# Altium integrated library Loggerhead.IntLib: 175 symbols
Pins are listed as number, name and electrical type; pins without a type are passive.

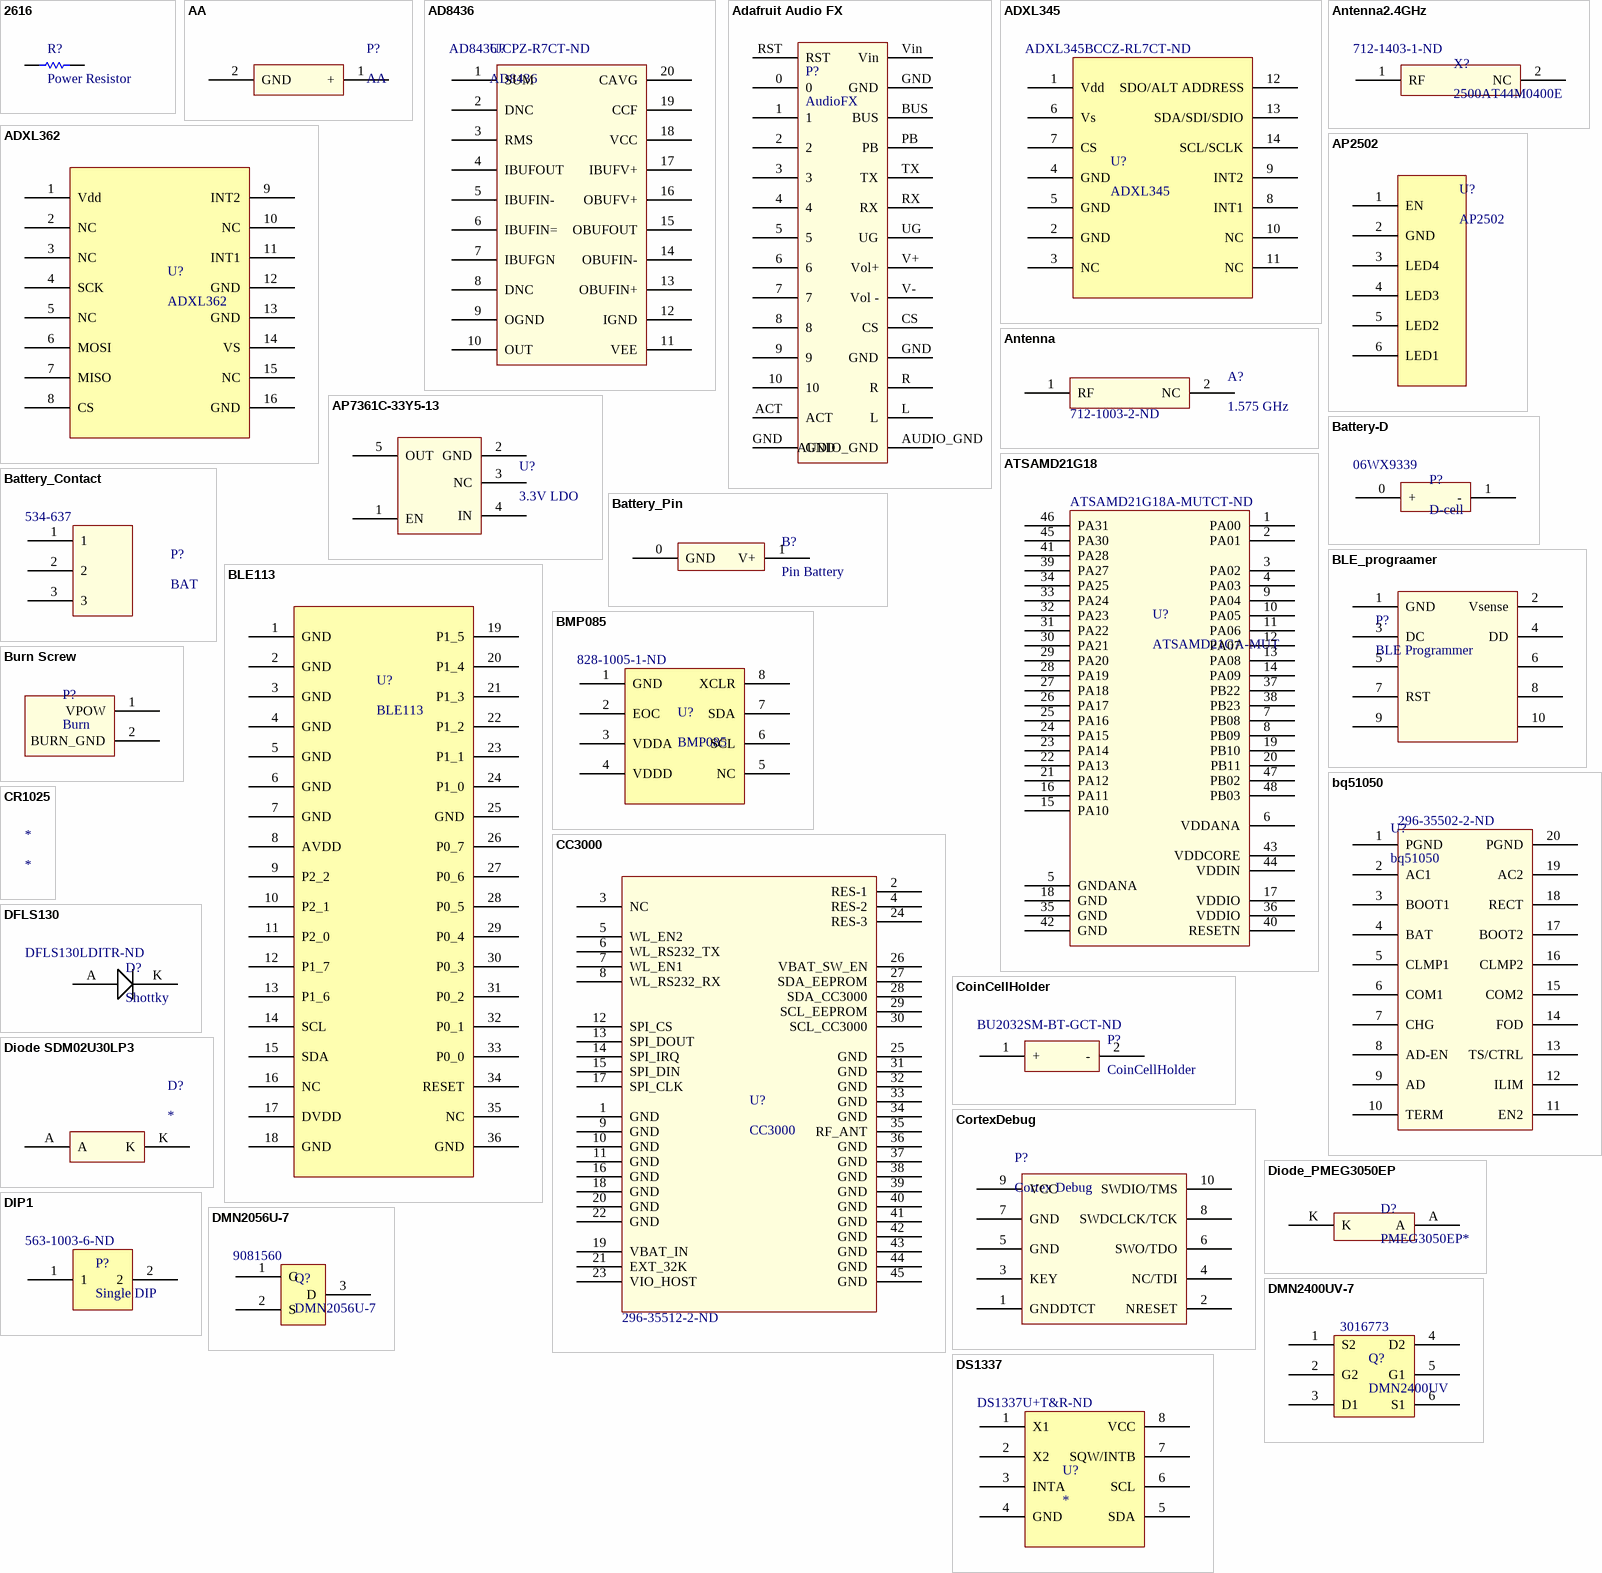
[diagram p0: symbols 2616 to DS1337]

## 2616
designator R?, comment Power Resistor
footprint 2616
pins: 1, 2

## AA
designator P?
footprint Model Name (Footprint not found)
footprint AA
pins: 1 +, 2 GND

## AD8436
designator U?  Supplier Part Number 1: AD8436JCPZ-R7CT-ND
RMS to DC; Supplier 1: Digi-Key
footprint AD8436 (RMS to DC)
pins: 1 SUM, 2 DNC, 3 RMS, 4 IBUFOUT, 5 IBUFIN-, 6 IBUFIN=, 7 IBUFGN, 8 DNC, 9 OGND, 10 OUT, 11 VEE, 12 IGND, 13 OBUFIN+, 14 OBUFIN-, 15 OBUFOUT, 16 OBUFV+, 17 IBUFV+, 18 VCC, 19 CCF, 20 CAVG

## Adafruit Audio FX
designator P?, comment AudioFX
footprint Adafruit Audio Fx
pins: 0, 1, 2, 3, 4, 5, 6, 7, 8, 9, 10, ACT, AUDIO_GND, BUS, CS, GND, GND, GND, L, PB, R, RST, RX, TX, UG, V+ Vol+, V- Vol -, Vin

## ADXL345
designator U?  Supplier Part Number 1: ADXL345BCCZ-RL7CT-ND
Supplier 1: Digi-Key
footprint ADXL345 (Digital Accelerometer)
pins: 1 Vdd (power), 2 GND, 3 NC, 4 GND, 5 GND, 6 Vs, 7 CS, 8 INT1, 9 INT2, 10 NC, 11 NC, 12 SDO/ALT ADDRESS, 13 SDA/SDI/SDIO, 14 SCL/SCLK

## ADXL362
designator U?
footprint ADXL362
pins: 1 Vdd (power), 2 NC, 3 NC, 4 SCK, 5 NC, 6 MOSI, 7 MISO, 8 CS, 9 INT2, 10 NC, 11 INT1, 12 GND, 13 GND, 14 VS, 15 NC, 16 GND

## Antenna
designator A?, comment 1.575 GHz  Supplier Part Number 1: 712-1003-2-ND
GPS chip antenna; Supplier 1: Digi-Key
footprint Antenna
pins: 1 RF, 2 NC

## Antenna2.4GHz
designator X?, comment 2500AT44M0400E  Supplier Part Number 1: 712-1403-1-ND
Supplier 1: Digi-Key
footprint 2500AT44M0400E (2.4GHz Antenna)
pins: 1 RF, 2 NC

## AP2502
designator U?
LED Driver 20 mA
footprint SOT-23-6 (AP2502KTR-G1)
pins: 1 EN, 2 GND, 3 LED4, 4 LED3, 5 LED2, 6 LED1

## AP7361C-33Y5-13
designator U?, comment 3.3V LDO
footprint AP7361C-33Y5-13 (3.3V LDO)
pins: 1 EN, 2 GND, 3 NC, 4 IN, 5 OUT

## ATSAMD21G18
designator U?, comment ATSAMD21GA-MUT  Supplier Part Number 1: ATSAMD21G18A-MUTCT-ND
Supplier 1: Digi-Key
footprint QFN127P600-8N
pins: 1 PA00, 2 PA01, 3 PA02, 4 PA03, 5 GNDANA, 6 VDDANA, 7 PB08, 8 PB09, 9 PA04, 10 PA05, 11 PA06, 12 PA07, 13 PA08, 14 PA09, 15 PA10, 16 PA11, 17 VDDIO, 18 GND, 19 PB10, 20 PB11, 21 PA12, 22 PA13, 23 PA14, 24 PA15, 25 PA16, 26 PA17, 27 PA18, 28 PA19, 29 PA20, 30 PA21, 31 PA22, 32 PA23, 33 PA24, 34 PA25, 35 GND, 36 VDDIO, 37 PB22, 38 PB23, 39 PA27, 40 RESETN, 41 PA28, 42 GND, 43 VDDCORE, 44 VDDIN, 45 PA30, 46 PA31, 47 PB02, 48 PB03

## Battery-D
designator P?, comment D-cell  Supplier Part Number 1: 06WX9339
Supplier 1: Newark
footprint Battery-D (Bulgin BX0037)
pins: 0 +, 1 -

## Battery_Contact
designator P?, comment BAT  Supplier Part Number 1: 534-637
Supplier 1: Mouser
footprint Battery_contact
pins: 1, 2, 3

## Battery_Pin
designator B?, comment Pin Battery
footprint Battery_Pin
pins: 0 GND, 1 V+

## BLE113
designator U?
footprint BLE113
pins: 1 GND (power), 2 GND, 3 GND, 4 GND, 5 GND, 6 GND, 7 GND, 8 AVDD, 9 P2_2, 10 P2_1, 11 P2_0, 12 P1_7, 13 P1_6, 14 SCL, 15 SDA, 16 NC, 17 DVDD, 18 GND, 19 P1_5, 20 P1_4, 21 P1_3, 22 P1_2, 23 P1_1, 24 P1_0, 25 GND, 26 P0_7, 27 P0_6, 28 P0_5, 29 P0_4, 30 P0_3, 31 P0_2, 32 P0_1, 33 P0_0, 34 RESET, 35 NC, 36 GND

## BLE_prograamer
designator P?, comment BLE Programmer
BLE Programmer Header
footprint CC2540 Header
pins: 1 GND, 2 Vsense, 3 DC, 4 DD, 5, 6, 7 RST, 8, 9, 10

## BMP085
designator U?  Supplier Part Number 1: 828-1005-1-ND
Altimeter/Temp Sensor; Supplier 1: Digi-Key
footprint LCC8_bosch
pins: 1 GND, 2 EOC, 3 VDDA, 4 VDDD, 5 NC, 6 SCL, 7 SDA, 8 XCLR (power)

## bq51050
designator U?  Supplier Part Number 1: 296-35502-2-ND
TI Qi Receiver; Supplier 1: Digi-Key
footprint bq51050 (TI Qi Receiver)
pins: 1 PGND, 2 AC1, 3 BOOT1, 4 BAT, 5 CLMP1, 6 COM1, 7 CHG, 8 AD-EN, 9 AD, 10 TERM, 11 EN2, 12 ILIM, 13 TS/CTRL, 14 FOD, 15 COM2, 16 CLMP2, 17 BOOT2, 18 RECT, 19 AC2, 20 PGND

## Burn Screw
designator P?, comment Burn
footprint BURN
pins: 1 VPOW, 2 BURN_GND

## CC3000
designator U?  Supplier Part Number 1: 296-35512-2-ND
TI WiFI; Supplier 1: Digi-Key
footprint CC3000 (TI WiFi)
pins: 1 GND, 2 RES-1, 3 NC, 4 RES-2, 5 WL_EN2, 6 WL_RS232_TX, 7 WL_EN1, 8 WL_RS232_RX, 9 GND, 10 GND, 11 GND, 12 SPI_CS, 13 SPI_DOUT, 14 SPI_IRQ, 15 SPI_DIN, 16 GND, 17 SPI_CLK, 18 GND, 19 VBAT_IN, 20 GND, 21 EXT_32K, 22 GND, 23 VIO_HOST, 24 RES-3, 25 GND, 26 VBAT_SW_EN, 27 SDA_EEPROM, 28 SDA_CC3000, 29 SCL_EEPROM, 30 SCL_CC3000, 31 GND, 32 GND, 33 GND, 34 GND, 35 RF_ANT, 36 GND, 37 GND, 38 GND, 39 GND, 40 GND, 41 GND, 42 GND, 43 GND, 44 GND, 45 GND

## CoinCellHolder
designator P?  Supplier Part Number 1: BU2032SM-BT-GCT-ND
Supplier 1: Digi-Key
footprint CoinCellHolder (MPD BU2032SM-BT-GTR)
pins: 1 +, 2 -

## CortexDebug
designator P?, comment Cortex Debug
footprint Header_2x5_50mil
pins: 1 GNDDTCT, 2 NRESET, 3 KEY, 4 NC/TDI, 5 GND, 6 SWO/TDO, 7 GND, 8 SWDCLCK/TCK, 9 VCC, 10 SWDIO/TMS

## CR1025
designator *
footprint CR1025

## DFLS130
designator D?, comment Shottky  Supplier Part Number 1: DFLS130LDITR-ND
Supplier 1: Digi-Key
footprint DFLS130
pins: A, K

## Diode SDM02U30LP3
designator D?
SDM02U30LP3
footprint Diode SDM02U30LP3-7B
pins: A, K

## Diode_PMEG3050EP
designator D?, comment PMEG3050EP*
footprint Diode_PMEG3050EP
pins: A, K

## DIP1
designator P?, comment Single DIP  Supplier Part Number 1: 563-1003-6-ND
Supplier 1: Digi-Key
footprint DIP1
pins: 1, 2

## DMN2056U-7
designator Q?  Supplier Part Number 1: 9081560
ComponentLink1Description: New link; ComponentLink1URL: https://www.diodes.com/assets/Datasheets/DMN2056U.pdf; Supplier 1: Future Electronics
footprint SOT92P240X115-3N (SOT23, 3-Leads, Body 2.90x2.40mm, Pitch 0.92mm, IPC Medium Density)
pins: 1 G, 2 S, 3 D

## DMN2400UV-7
designator Q?, comment DMN2400UV  Supplier Part Number 1: 3016773
Supplier 1: Future Electronics
footprint SOT50P162X60-6N (SOT23, 6-Leads, Body 1.60x1.63mm, Pitch 0.50mm, IPC Medium Density)
pins: 1 S2, 2 G2, 3 D1, 4 D2, 5 G1, 6 S1

## DS1337
designator U?  Supplier Part Number 1: DS1337U+T&R-ND
Supplier 1: Digi-Key
footprint uSOP8
pins: 1 X1, 2 X2, 3 INTA, 4 GND, 5 SDA, 6 SCL, 7 SQW/INTB, 8 VCC (power)

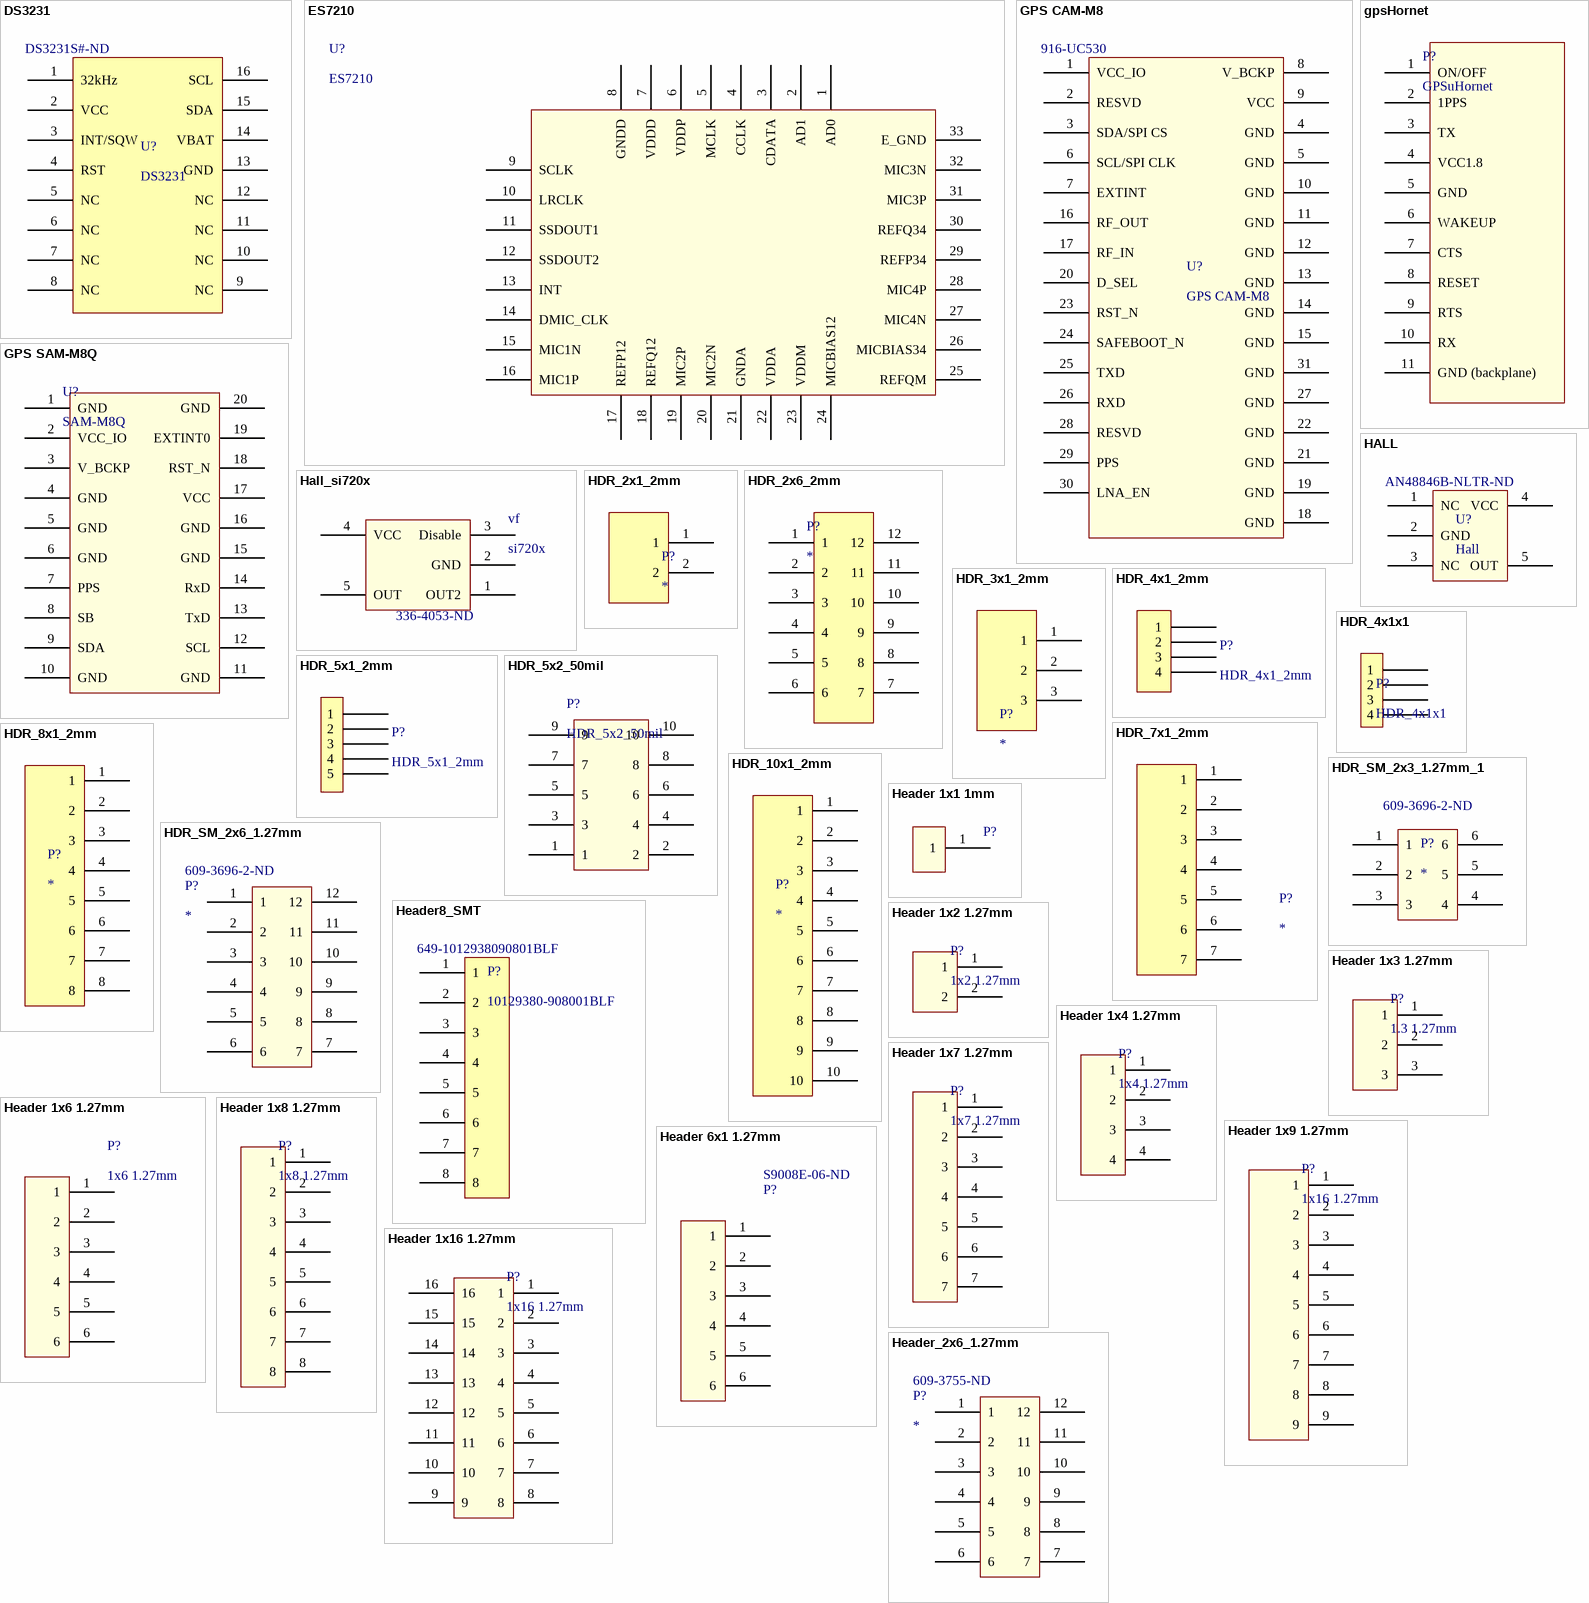
[diagram p1: symbols DS3231 to Header_2x6_1.27mm]

## DS3231
designator U?  Supplier Part Number 1: DS3231S#-ND
Supplier 1: Digi-Key
footprint DS3231
pins: 1 32kHz, 2 VCC (power), 3 INT/SQW, 4 RST, 5 NC, 6 NC, 7 NC, 8 NC, 9 NC, 10 NC, 11 NC, 12 NC, 13 GND, 14 VBAT (power), 15 SDA, 16 SCL

## ES7210
designator U?
Audio CODEC
footprint ES7210 (4-ch audio codec)
pins: 1 AD0, 2 AD1, 3 CDATA, 4 CCLK, 5 MCLK, 6 VDDP, 7 VDDD, 8 GNDD, 9 SCLK, 10 LRCLK, 11 SSDOUT1, 12 SSDOUT2, 13 INT, 14 DMIC_CLK, 15 MIC1N, 16 MIC1P, 17 REFP12, 18 REFQ12, 19 MIC2P, 20 MIC2N, 21 GNDA, 22 VDDA, 23 VDDM, 24 MICBIAS12, 25 REFQM, 26 MICBIAS34, 27 MIC4N, 28 MIC4P, 29 REFP34, 30 REFQ34, 31 MIC3P, 32 MIC3N, 33 E_GND

## GPS CAM-M8
designator U?  Supplier Part Number 1: 916-UC530
Supplier 1: Mouser
footprint Fastrax (Fastrax GPS Module UC530)
pins: 1 VCC_IO, 2 RESVD, 3 SDA/SPI CS, 4 GND, 5 GND, 6 SCL/SPI CLK, 7 EXTINT, 8 V_BCKP, 9 VCC, 10 GND, 11 GND, 12 GND, 13 GND, 14 GND, 15 GND, 16 RF_OUT, 17 RF_IN, 18 GND, 19 GND, 20 D_SEL, 21 GND, 22 GND, 23 RST_N, 24 SAFEBOOT_N, 25 TXD, 26 RXD, 27 GND, 28 RESVD, 29 PPS, 30 LNA_EN, 31 GND

## GPS SAM-M8Q
designator U?, comment SAM-M8Q
footprint GPS SAM-MQ8
pins: 1 GND, 2 VCC_IO, 3 V_BCKP, 4 GND, 5 GND, 6 GND, 7 PPS, 8 SB, 9 SDA, 10 GND, 11 GND, 12 SCL, 13 TxD, 14 RxD, 15 GND, 16 GND, 17 VCC, 18 RST_N, 19 EXTINT0, 20 GND

## gpsHornet
designator P?, comment GPSuHornet
footprint gpsHornet
pins: 1 ON/OFF, 2 1PPS, 3 TX, 4 VCC1.8, 5 GND, 6 WAKEUP, 7 CTS, 8 RESET, 9 RTS, 10 RX, 11 GND (backplane)

## HALL
designator U?, comment Hall  Supplier Part Number 1: AN48846B-NLTR-ND
Supplier 1: Digi-Key
footprint HALL (SOT23, 5-Leads, Body 2.00x2.10mm, Pitch 0.65mm, IPC Medium Density)
pins: 1 NC, 2 GND, 3 NC, 4 VCC, 5 OUT

## Hall_si720x
designator vf, comment si720x  Supplier Part Number 1: 336-4053-ND
Hall Sensor; Supplier 1: Digi-Key
footprint Hall_si720x (SOT23, 5-Leads, Body 2.90x2.75mm, Pitch 0.95mm, IPC Medium Density)
pins: 1 OUT2, 2 GND, 3 Disable, 4 VCC, 5 OUT

## HDR_2x1_2mm
designator P?
footprint HDR_2x1_2mm
pins: 1, 2

## HDR_2x6_2mm
designator P?
footprint HDR_6x2_2mm
pins: 1, 2, 3, 4, 5, 6, 7, 8, 9, 10, 11, 12

## HDR_3x1_2mm
designator P?
footprint HDR_3x1_2mm
pins: 1, 2, 3

## HDR_4x1_2mm
designator P?
footprint Hdr_4x1_2mm
pins: 1, 2, 3, 4

## HDR_4x1x1
designator P?
footprint HDR4x1x1mm (Header with 1 mm centers)
pins: 1, 2, 3, 4

## HDR_5x1_2mm
designator P?
footprint Hdr_5x1_2mm
pins: 1, 2, 3, 4, 5

## HDR_5x2_50mil
designator P?
footprint Header_2x5_50mil
pins: 1, 2, 3, 4, 5, 6, 7, 8, 9, 10

## HDR_7x1_2mm
designator P?
footprint HDR_7x1_2mm
pins: 1, 2, 3, 4, 5, 6, 7

## HDR_8x1_2mm
designator P?
footprint HDR_8x1_2mm
pins: 1, 2, 3, 4, 5, 6, 7, 8

## HDR_10x1_2mm
designator P?
footprint HDR_10x1_2mm
pins: 1, 2, 3, 4, 5, 6, 7, 8, 9, 10

## HDR_SM_2x3_1.27mm_1
designator P?  Supplier Part Number 1: 609-3696-2-ND
Amphenol surface mount header; Supplier 1: Digi-Key
footprint HDR_SM_2x6_1.27mm
pins: 1, 2, 3, 4, 5, 6

## HDR_SM_2x6_1.27mm
designator P?  Supplier Part Number 1: 609-3696-2-ND
Amphenol surface mount header; Supplier 1: Digi-Key
footprint SM Header12
pins: 1, 2, 3, 4, 5, 6, 7, 8, 9, 10, 11, 12

## Header8_SMT
designator P?, comment 10129380-908001BLF  Supplier Part Number 1: 649-1012938090801BLF
Surface mount header; Supplier 1: Mouser
footprint Header_8_SMT (Amphenol  10129380-908001BLF)
pins: 1, 2, 3, 4, 5, 6, 7, 8

## Header 1x1 1mm
designator P?
1mm through hole
footprint Header1x1mm
pins: 1

## Header 1x2 1.27mm
designator P?, comment 1x2 1.27mm
footprint Header1x2 1.27mm
pins: 1, 2

## Header 1x3 1.27mm
designator P?, comment 1.3 1.27mm
footprint Header1x3 1.27mm
pins: 1, 2, 3

## Header 1x4 1.27mm
designator P?, comment 1x4 1.27mm
footprint Header1x4 1.27mm
pins: 1, 2, 3, 4

## Header 1x6 1.27mm
designator P?, comment 1x6 1.27mm
footprint Header1x6 1.27mm
pins: 1, 2, 3, 4, 5, 6

## Header 1x7 1.27mm
designator P?, comment 1x7 1.27mm
footprint Header1x7 1.27mm
pins: 1, 2, 3, 4, 5, 6, 7

## Header 1x8 1.27mm
designator P?, comment 1x8 1.27mm
footprint Header1x8 1.27mm
pins: 1, 2, 3, 4, 5, 6, 7, 8

## Header 1x9 1.27mm
designator P?, comment 1x16 1.27mm
footprint Header1x9 1.27mm
pins: 1, 2, 3, 4, 5, 6, 7, 8, 9

## Header 1x16 1.27mm
designator P?, comment 1x16 1.27mm
footprint Header1x16 1.27mm
pins: 1, 2, 3, 4, 5, 6, 7, 8, 9, 10, 11, 12, 13, 14, 15, 16

## Header 6x1 1.27mm
designator P?  Supplier Part Number 1: S9008E-06-ND
Supplier 1: Digi-Key
footprint Header6x1 1.27mm
pins: 1, 2, 3, 4, 5, 6

## Header_2x6_1.27mm
designator P?  Supplier Part Number 1: 609-3755-ND
Amphenol board mount header; Supplier 1: Digi-Key
footprint Header2x6 1.27mm
pins: 1, 2, 3, 4, 5, 6, 7, 8, 9, 10, 11, 12

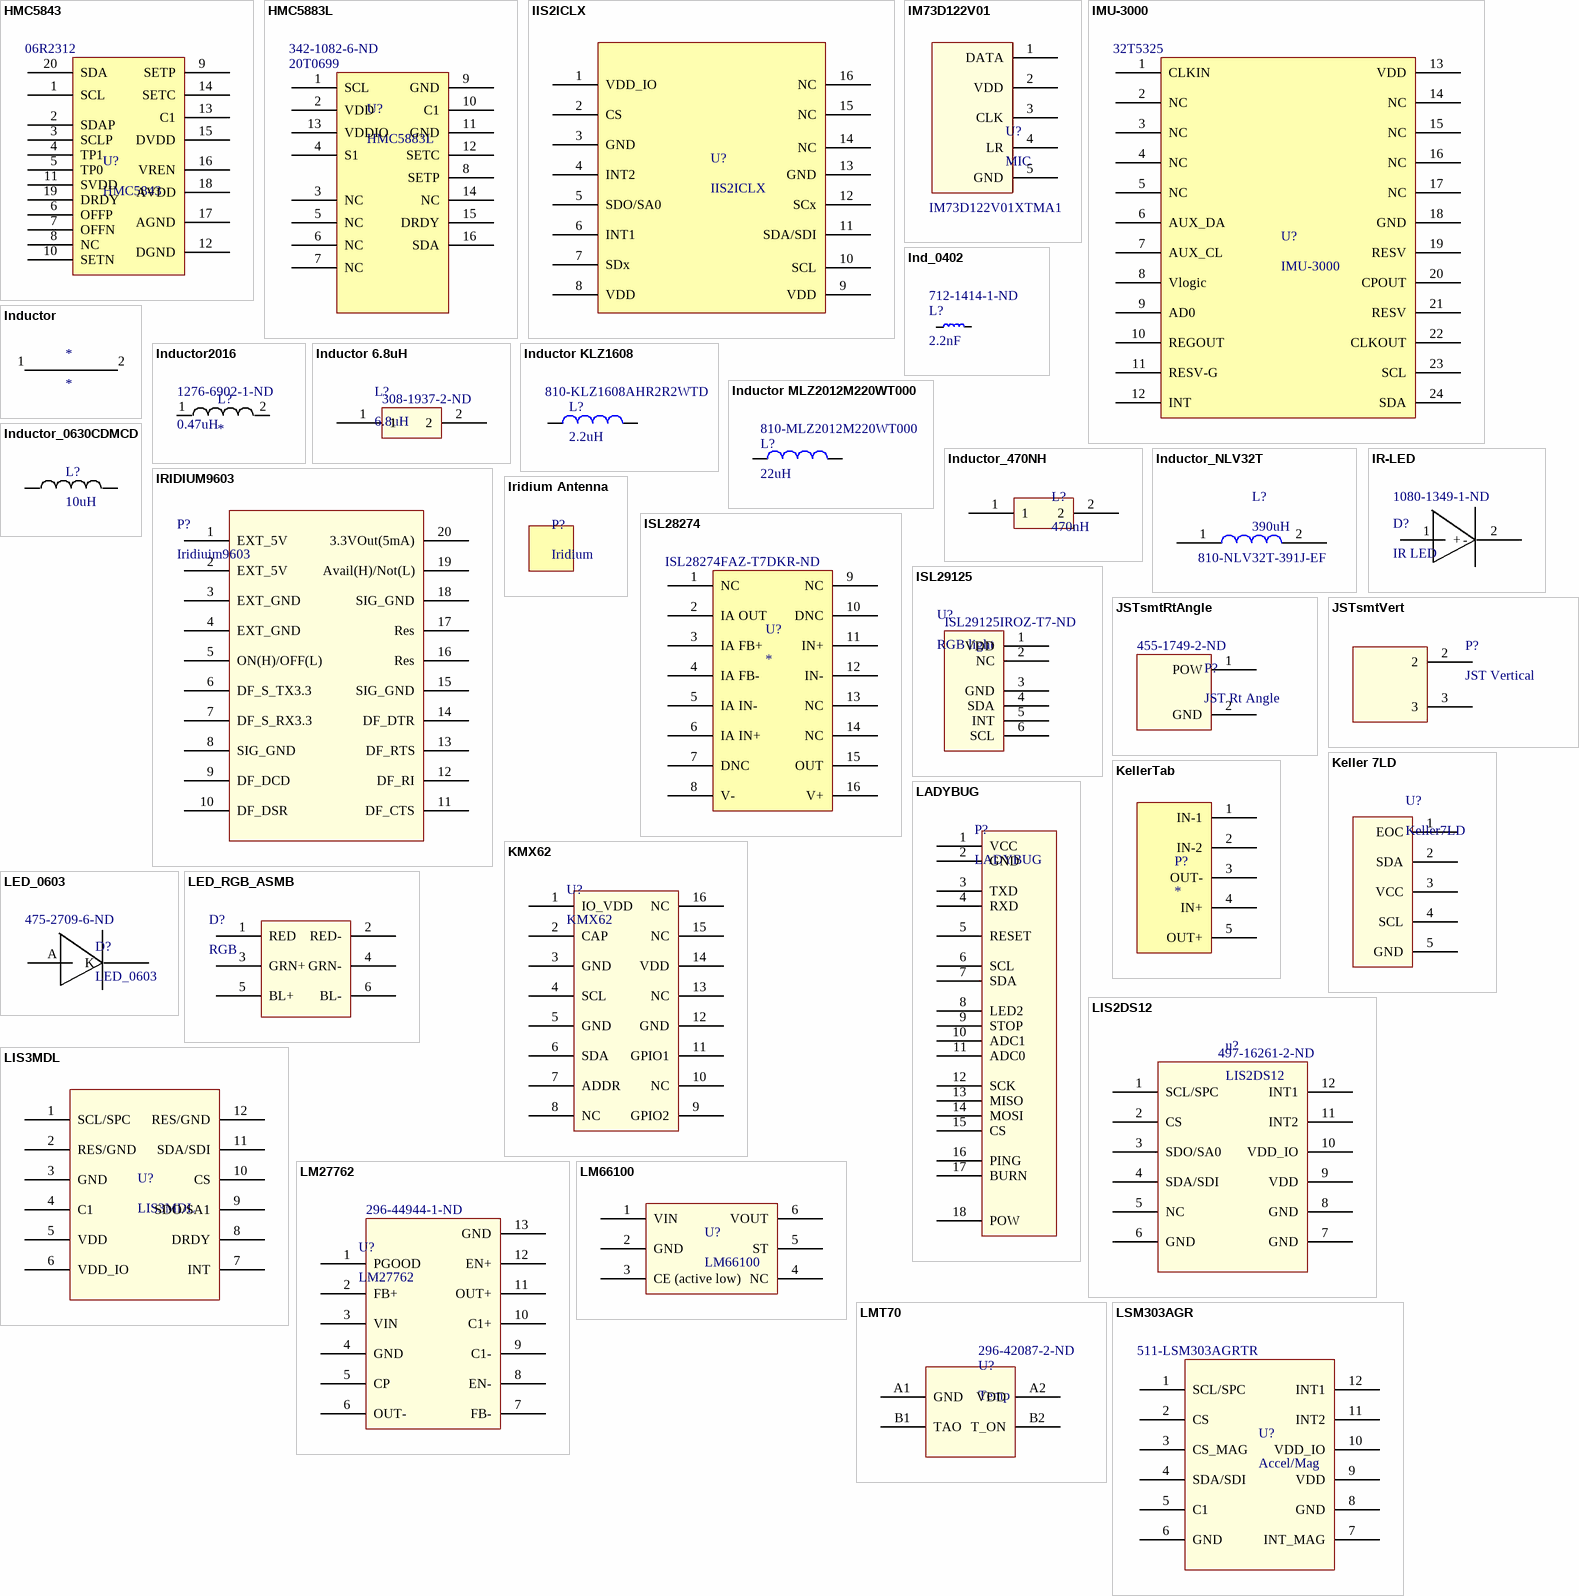
[diagram p2: symbols HMC5843 to LSM303AGR]

## HMC5843
designator U?  Supplier Part Number 1: 06R2312
Supplier 1: Newark
footprint HMC5843 (Compass)
pins: 1 SCL, 2 SDAP, 3 SCLP, 4 TP1, 5 TP0, 6 OFFP, 7 OFFN, 8 NC, 9 SETP, 10 SETN, 11 SVDD, 12 DGND, 13 C1, 14 SETC, 15 DVDD, 16 VREN, 17 AGND, 18 AVDD (power), 19 DRDY, 20 SDA

## HMC5883L
designator U?  Supplier Part Number 1: 20T0699  Supplier Part Number 2: 342-1082-6-ND
Supplier 1: Newark; Supplier 2: Digi-Key
footprint HMC5883L (Compass 3D Honeywell)
pins: 1 SCL, 2 VDD (power), 3 NC, 4 S1, 5 NC, 6 NC, 7 NC, 8 SETP, 9 GND, 10 C1, 11 GND, 12 SETC, 13 VDDIO, 14 NC, 15 DRDY, 16 SDA

## IIS2ICLX
designator U?
2-axis Accelerometer
footprint IIS2ICLX (accelerometer)
pins: 1 VDD_IO, 2 CS, 3 GND, 4 INT2, 5 SDO/SA0, 6 INT1, 7 SDx, 8 VDD, 9 VDD, 10 SCL, 11 SDA/SDI, 12 SCx, 13 GND, 14 NC, 15 NC, 16 NC

## IM73D122V01
designator U?, comment MIC  Supplier Part Number 1: IM73D122V01XTMA1
Infineon MEMS Mic; Supplier 1: Arrow Electronics
footprint IM73D122V01 (Infineon MEMS Mic)
pins: 1 DATA, 2 VDD, 3 CLK, 4 LR, 5 GND

## IMU-3000
designator U?  Supplier Part Number 1: 32T5325
Supplier 1: Newark
footprint IMU-3000 (Invensense Gyro)
pins: 1 CLKIN, 2 NC, 3 NC, 4 NC, 5 NC, 6 AUX_DA, 7 AUX_CL, 8 Vlogic, 9 AD0, 10 REGOUT, 11 RESV-G, 12 INT, 13 VDD (power), 14 NC, 15 NC, 16 NC, 17 NC, 18 GND, 19 RESV, 20 CPOUT, 21 RESV, 22 CLKOUT, 23 SCL, 24 SDA

## Ind_0402
designator L?, comment 2.2nF  Supplier Part Number 1: 712-1414-1-ND
chip inductor; Supplier 1: Digi-Key
footprint INDC1005X05N (Chip Inductor, 2-Leads, Body 1.00x0.50mm, IPC Medium Density)
pins: 1, 2

## Inductor
designator *
footprint Inductor
pins: 1, 2

## Inductor2016
designator L?  value 0.47uH  Supplier Part Number 1: 1276-6902-1-ND
Supplier 1: Digi-Key
footprint Inductor2016
pins: 1, 2

## Inductor 6.8uH
designator L?, comment 6.8uH  Supplier Part Number 1: 308-1937-2-ND
Sumida Inductor; Supplier 1: Digi-Key
footprint Inductor - duplicate (Sumida Inductor)
pins: 1, 2

## Inductor KLZ1608
designator L?, comment 2.2uH  Supplier Part Number 1: 810-KLZ1608AHR2R2WTD
Supplier 1: Mouser
footprint Inductor KLZ1608AHR
pins: 1, 2

## Inductor MLZ2012M220WT000
designator L?, comment 22uH  Supplier Part Number 1: 810-MLZ2012M220WT000
Supplier 1: Mouser
footprint Inductor MLZ2012M220WT000
pins: 1, 2

## Inductor_470NH
designator L?, comment 470nH
Supplier 1: Newark; Supplier Part Number 1: 27T2304
footprint Model Name (Footprint not found)
footprint Inductor_470NH (Vishay IHLP1212AEERR47M11)
pins: 1, 2

## Inductor_0630CDMCD
designator L?, comment 10uH
footprint Inductor0630CDMCD
pins: 1, 2

## Inductor_NLV32T
designator L?, comment 390uH  Supplier Part Number 1: 810-NLV32T-391J-EF
Supplier 1: Mouser
footprint Inductor_NLV32T
pins: 1, 2

## IR-LED
designator D?, comment IR LED  Supplier Part Number 1: 1080-1349-1-ND
Supplier 1: Digi-Key
footprint IR-LED
pins: 1 +, 2 - "Cathode (gnd)"

## IRIDIUM9603
designator P?, comment Iridiuim9603
footprint Iridium9603
pins: 1 EXT_5V, 2 EXT_5V, 3 EXT_GND, 4 EXT_GND, 5 ON(H)/OFF(L), 6 DF_S_TX3.3, 7 DF_S_RX3.3, 8 SIG_GND, 9 DF_DCD, 10 DF_DSR, 11 DF_CTS, 12 DF_RI, 13 DF_RTS, 14 DF_DTR, 15 SIG_GND, 16 Res, 17 Res, 18 SIG_GND, 19 Avail(H)/Not(L), 20 3.3VOut(5mA)

## Iridium Antenna
designator P?, comment Iridium
footprint Iridium Antenna (Iridium patch antenna)

## ISL28274
designator U?  Supplier Part Number 1: ISL28274FAZ-T7DKR-ND
Supplier 1: Digi-Key
footprint QSOP16_Intersil
pins: 1 NC, 2 IA OUT, 3 IA FB+, 4 IA FB-, 5 IA IN-, 6 IA IN+, 7 DNC, 8 V-, 9 NC, 10 DNC, 11 IN+, 12 IN-, 13 NC, 14 NC, 15 OUT, 16 V+ (power)

## ISL29125
designator U?, comment RGB light  Supplier Part Number 1: ISL29125IROZ-T7-ND
RGB light sensor; Supplier 1: Digi-Key
footprint ODFN
pins: 1 VDD, 2 NC, 3 GND, 4 SDA, 5 INT, 6 SCL

## JSTsmtRtAngle
designator P?, comment JST Rt Angle  Supplier Part Number 1: 455-1749-2-ND
Supplier 1: Digi-Key
footprint JST_2SMT (JST 2 pin right angle surface mount connector)
pins: 1 POW, 2 GND

## JSTsmtVert
designator P?, comment JST Vertical
footprint JST_SMT (JST surface mount power connector)
pins: 2, 3

## Keller 7LD
designator U?, comment Keller7LD
Keller Pressure/Temp; PDF: http://www.kelleramerica.com/pdf-library/Piezoresistive%20OEM%20Pressure%20Transmitters%20with%20I2C%20interface%20and%20embedded%20signal%20conditioning.pdf
footprint Keller7LD
pins: 1 EOC, 2 SDA, 3 VCC, 4 SCL, 5 GND

## KellerTab
designator P?
footprint KellerTab1 (Pressure sensor)
pins: 1 IN-1, 2 IN-2, 3 OUT-, 4 IN+, 5 OUT+

## KMX62
designator U?
Kionix Accel/Mag
footprint Kionix_3x3_LGA16
pins: 1 IO_VDD, 2 CAP, 3 GND, 4 SCL, 5 GND, 6 SDA, 7 ADDR, 8 NC, 9 GPIO2, 10 NC, 11 GPIO1, 12 GND, 13 NC, 14 VDD, 15 NC, 16 NC

## LADYBUG
designator P?
footprint Ladybug (Circular arduino connector)
pins: 1 VCC, 2 GND, 3 TXD, 4 RXD, 5 RESET, 6 SCL, 7 SDA, 8 LED2, 9 STOP, 10 ADC1, 11 ADC0, 12 SCK, 13 MISO, 14 MOSI, 15 CS, 16 PING, 17 BURN, 18 POW

## LED_0603
designator D?  Supplier Part Number 1: 475-2709-6-ND
Supplier 1: Digi-Key
footprint Diode0603
pins: A, K "Cathode (gnd)"

## LED_RGB_ASMB
designator D?, comment RGB
ASMB-TTF0-0A20B
footprint LED-PLCC-6
pins: 1 RED, 2 RED-, 3 GRN+, 4 GRN-, 5 BL+, 6 BL-

## LIS2DS12
designator u?  Supplier Part Number 1: 497-16261-2-ND
Supplier 1: Digi-Key
footprint LGA-12 (LIS2DS12)
pins: 1 SCL/SPC, 2 CS, 3 SDO/SA0, 4 SDA/SDI, 5 NC, 6 GND, 7 GND, 8 GND, 9 VDD, 10 VDD_IO, 11 INT2, 12 INT1

## LIS3MDL
designator U?
magnetometer
footprint LGA-12 (LIS2DS12)
pins: 1 SCL/SPC, 2 RES/GND, 3 GND, 4 C1, 5 VDD, 6 VDD_IO, 7 INT, 8 DRDY, 9 SDO/SA1, 10 CS, 11 SDA/SDI, 12 RES/GND

## LM27762
designator U?  Supplier Part Number 1: 296-44944-1-ND
Pos and Neg Output Charge pump plus LDO; Supplier 1: Digi-Key
footprint SOP12
pins: 1 PGOOD, 2 FB+, 3 VIN, 4 GND, 5 CP, 6 OUT-, 7 FB-, 8 EN-, 9 C1-, 10 C1+, 11 OUT+, 12 EN+, 13 GND

## LM66100
designator U?
footprint SC-70-6 (SOT23, 6-Leads, Body 2.00x2.10mm, Pitch 0.65mm, IPC Medium Density)
pins: 1 VIN, 2 GND, 3 CE (active low), 4 NC, 5 ST, 6 VOUT

## LMT70
designator U?, comment Temp  Supplier Part Number 1: 296-42087-2-ND
Supplier 1: Digi-Key
footprint BGA4_TMP103 (BGA, 4-Leads, Body 0.8x0.8mm,  Pitch 0.40mm)
pins: A1 GND, A2 VDD, B1 TAO, B2 T_ON

## LSM303AGR
designator U?, comment Accel/Mag  Supplier Part Number 1: 511-LSM303AGRTR
Supplier 1: Mouser
footprint LGA-12 (LIS2DS12)
pins: 1 SCL/SPC, 2 CS, 3 CS_MAG, 4 SDA/SDI, 5 C1, 6 GND, 7 INT_MAG, 8 GND, 9 VDD, 10 VDD_IO, 11 INT2, 12 INT1

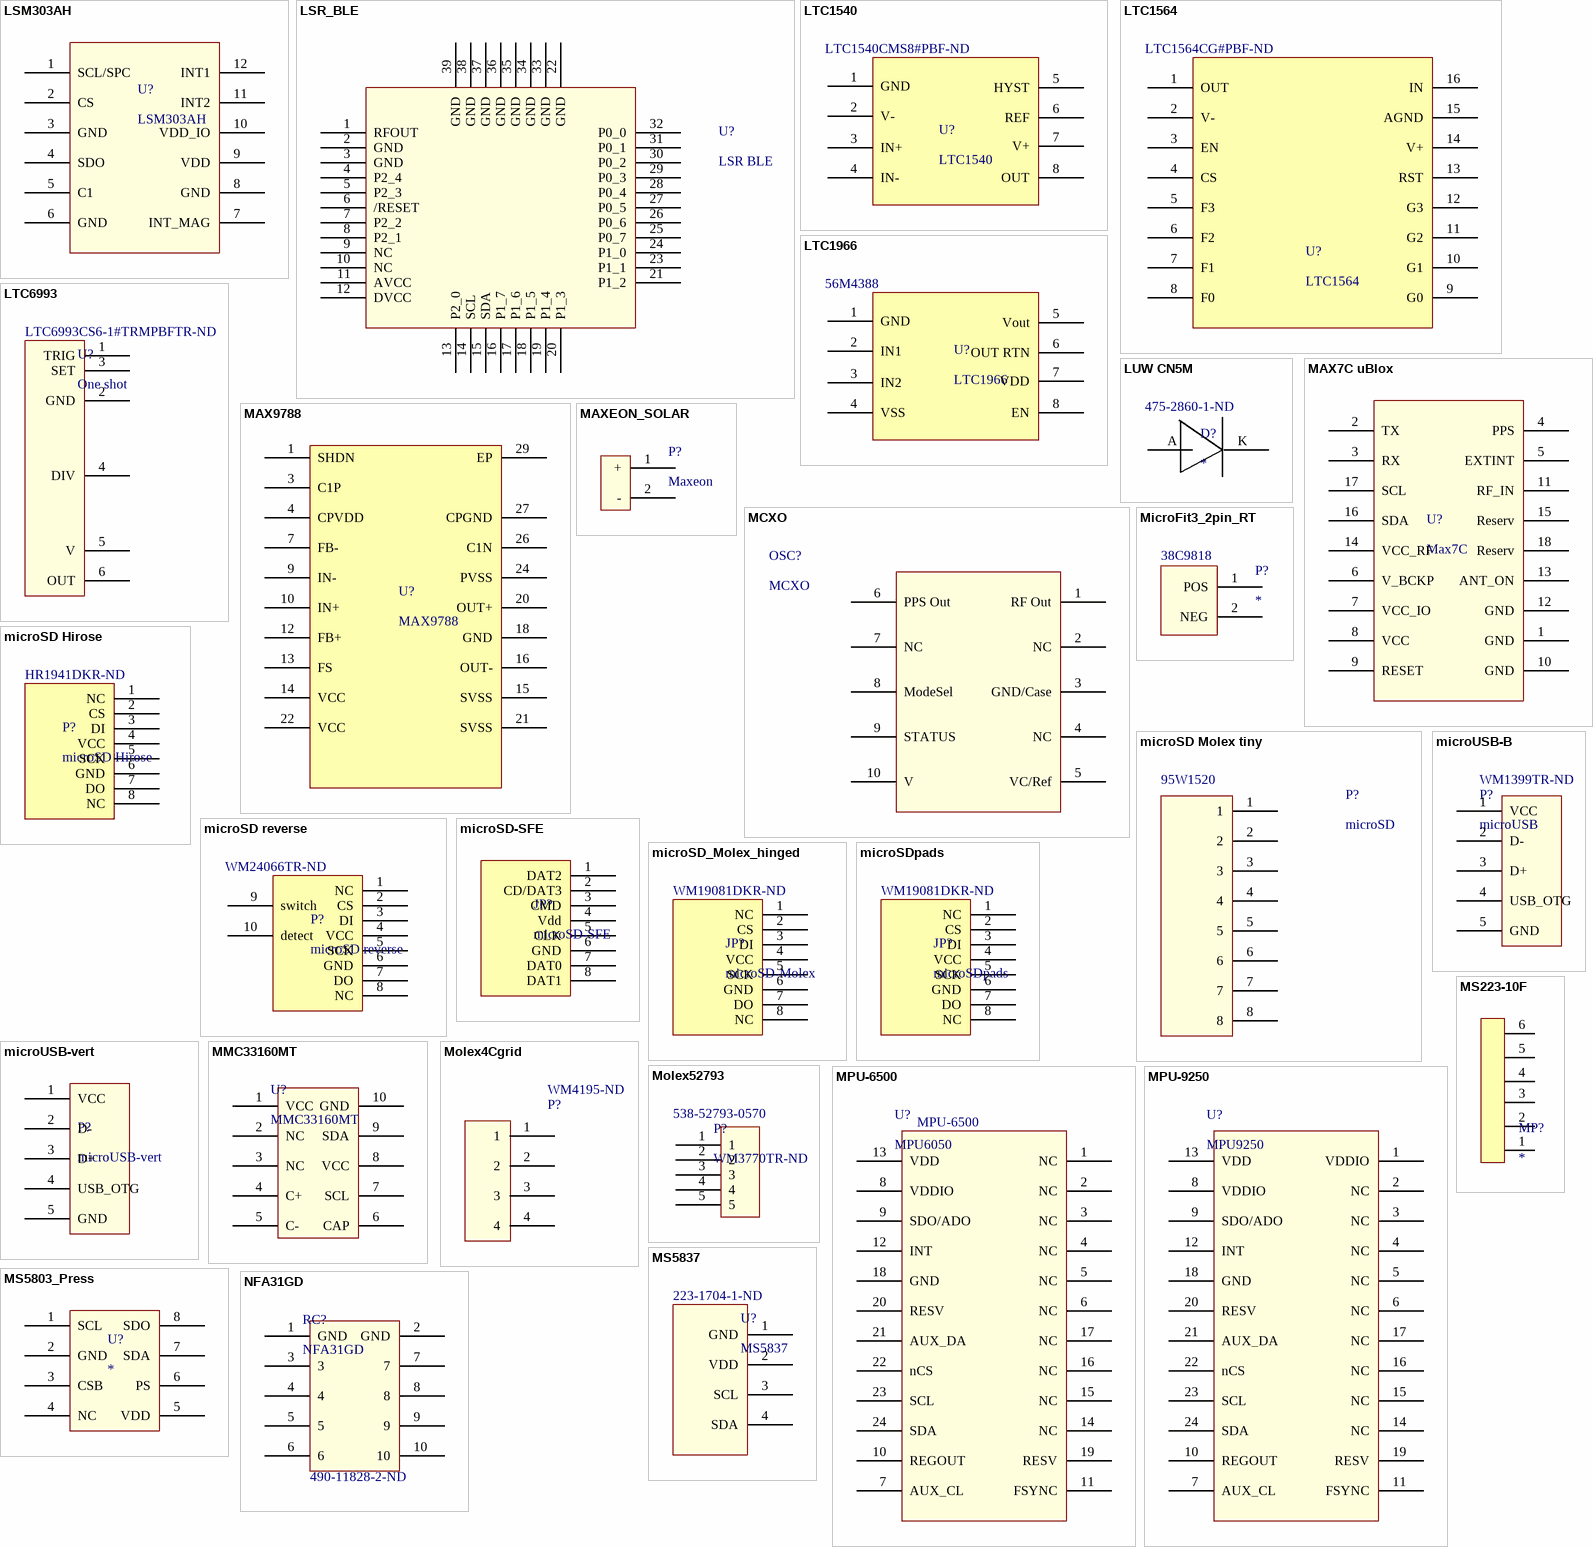
[diagram p3: symbols LSM303AH to NFA31GD]

## LSM303AH
designator U?
Supplier 1: Newark; Supplier Part Number 1: 51AC9171
footprint LGA-12 (LIS2DS12)
pins: 1 SCL/SPC, 2 CS, 3 GND, 4 SDO, 5 C1, 6 GND, 7 INT_MAG, 8 GND, 9 VDD, 10 VDD_IO, 11 INT2, 12 INT1

## LSR_BLE
designator U?, comment LSR BLE
LSR Bluetooth
footprint LSR_BLE
pins: 1 RFOUT, 2 GND, 3 GND, 4 P2_4, 5 P2_3, 6 /RESET, 7 P2_2, 8 P2_1, 9 NC, 10 NC, 11 AVCC, 12 DVCC, 13 P2_0, 14 SCL, 15 SDA, 16 P1_7, 17 P1_6, 18 P1_5, 19 P1_4, 20 P1_3, 21 P1_2, 22 GND, 23 P1_1, 24 P1_0, 25 P0_7, 26 P0_6, 27 P0_5, 28 P0_4, 29 P0_3, 30 P0_2, 31 P0_1, 32 P0_0, 33 GND, 34 GND, 35 GND, 36 GND, 37 GND, 38 GND, 39 GND

## LTC1540
designator U?  Supplier Part Number 1: LTC1540CMS8#PBF-ND
Supplier 1: Digi-Key
footprint MS8 (Shrink Small Outline; 8 Leads; Body Width 3 mm; Pitch 0.65 mm)
pins: 1 GND, 2 V-, 3 IN+, 4 IN-, 5 HYST, 6 REF, 7 V+ (power), 8 OUT

## LTC1564
designator U?  Supplier Part Number 1: LTC1564CG#PBF-ND
Supplier 1: Digi-Key
footprint SSOP16
pins: 1 OUT, 2 V-, 3 EN, 4 CS, 5 F3, 6 F2, 7 F1, 8 F0, 9 G0, 10 G1, 11 G2, 12 G3, 13 RST, 14 V+, 15 AGND, 16 IN

## LTC1966
designator U?  Supplier Part Number 1: 56M4388
Supplier 1: Newark
footprint MSOP8-LTC1966
pins: 1 GND, 2 IN1, 3 IN2, 4 VSS, 5 Vout, 6 OUT RTN, 7 VDD (power), 8 EN

## LTC6993
designator U?, comment One shot  Supplier Part Number 1: LTC6993CS6-1#TRMPBFTR-ND
Supplier 1: Digi-Key
footprint TSOT-23
pins: 1 TRIG, 2 GND, 3 SET, 4 DIV, 5 V, 6 OUT

## LUW CN5M
designator D?  Supplier Part Number 1: 475-2860-1-ND
OSRAM LED; Supplier 1: Digi-Key
footprint OSRAM_LED (OSRAM LUW CN5M)
pins: A, K "Cathode (gnd)"

## MAX7C uBlox
designator U?, comment Max7C
GPS module
footprint MAX7 (LCC, 18-Pins, Body 9.70x10.10mmx2.50mm, Pitch 1.10mm, IPC Medium Density)
pins: 1 GND, 2 TX, 3 RX, 4 PPS, 5 EXTINT, 6 V_BCKP, 7 VCC_IO, 8 VCC, 9 RESET, 10 GND, 11 RF_IN, 12 GND, 13 ANT_ON, 14 VCC_RF, 15 Reserv, 16 SDA, 17 SCL, 18 Reserv

## MAX9788
designator U?
audio amp
footprint MAX9788 (QFN, 28-Leads, Body 4.00x4.00mm, Pitch 0.40mm, Thermal Pad 2.60x2.60mm, IPC Medium Density)
pins: 1 SHDN, 3 C1P, 4 CPVDD, 7 FB-, 9 IN-, 10 IN+, 12 FB+, 13 FS, 14 VCC, 15 SVSS, 16 OUT-, 18 GND, 20 OUT+, 21 SVSS, 22 VCC, 24 PVSS, 26 C1N, 27 CPGND, 29 EP

## MAXEON_SOLAR
designator P?, comment Maxeon
footprint Maxeon Solar
pins: 1 +, 2 -

## MCXO
designator OSC?
MCXO oscillator
footprint MCXO
pins: 1 RF Out, 2 NC, 3 GND/Case, 4 NC, 5 VC/Ref, 6 PPS Out, 7 NC, 8 ModeSel, 9 STATUS, 10 V

## MicroFit3_2pin_RT
designator P?  Supplier Part Number 1: 38C9818
Supplier 1: Newark
footprint Microfit 3 - 2 pin RT
pins: 1 POS, 2 NEG

## microSD Hirose
designator P?  Supplier Part Number 1: HR1941DKR-ND
Supplier 1: Digi-Key
footprint DM3D microSD (MICROSD_HIROSE Push-Pull)
pins: 1 NC, 2 CS, 3 DI, 4 VCC, 5 SCK, 6 GND, 7 DO, 8 NC

## microSD Molex tiny
designator P?, comment microSD  Supplier Part Number 1: 95W1520
Supplier 1: Newark
footprint Molex microSD (wicked small microSD)
pins: 1, 2, 3, 4, 5, 6, 7, 8

## microSD reverse
designator P?  Supplier Part Number 1: WM24066TR-ND
Supplier 1: Digi-Key
footprint miroSD_reverse (5027740891)
pins: 1 NC, 2 CS, 3 DI, 4 VCC, 5 SCK, 6 GND, 7 DO, 8 NC, 9 switch, 10 detect

## microSD-SFE
designator JP?
footprint microSD Socket
pins: 1 DAT2, 2 CD/DAT3, 3 CMD, 4 Vdd, 5 CLK, 6 GND, 7 DAT0, 8 DAT1

## microSD_Molex_hinged
designator JP?, comment microSD-Molex  Supplier Part Number 1: WM19081DKR-ND
Supplier 1: Digi-Key
footprint microSD_Molex_hinged
pins: 1 NC, 2 CS, 3 DI, 4 VCC, 5 SCK, 6 GND, 7 DO, 8 NC

## microSDpads
designator JP?  Supplier Part Number 1: WM19081DKR-ND
Supplier 1: Digi-Key
footprint microSDtabs
pins: 1 NC, 2 CS, 3 DI, 4 VCC, 5 SCK, 6 GND, 7 DO, 8 NC

## microUSB-B
designator P?, comment microUSB  Supplier Part Number 1: WM1399TR-ND
Supplier 1: Digi-Key
footprint microUSB-B
pins: 1 VCC, 2 D-, 3 D+, 4 USB_OTG, 5 GND

## microUSB-vert
designator P?
Molex 105133-0011
footprint MICROUSB-VERT (Molex 05133-0011)
pins: 1 VCC, 2 D-, 3 D+, 4 USB_OTG, 5 GND

## MMC33160MT
designator U?
footprint MMC33160MT (Memsic magnetometer)
pins: 1 VCC, 2 NC, 3 NC, 4 C+, 5 C-, 6 CAP, 7 SCL, 8 VCC, 9 SDA, 10 GND

## Molex4Cgrid
designator P?  Supplier Part Number 1: WM4195-ND
Supplier 1: Digi-Key
footprint Molex 4 c-grid
pins: 1, 2, 3, 4

## Molex52793
designator P?, comment WM3770TR-ND  Supplier Part Number 1: 538-52793-0570
Supplier 1: Mouser
footprint FFC52793 (Molex 5 pin FFC)
pins: 1, 2, 3, 4, 5

## MPU-6500
designator U?, comment MPU6050  Supplier Part Number 1: MPU-6500
Invensense; Supplier 1: Digi-Key
footprint MPU6500 (QFN, 24-Leads, Body 3.00x3.00mm, Pitch 0.40mm, Thermal Pad 1.54x1.54mm, IPC Medium Density)
pins: 1 NC, 2 NC, 3 NC, 4 NC, 5 NC, 6 NC, 7 AUX_CL, 8 VDDIO, 9 SDO/ADO, 10 REGOUT, 11 FSYNC, 12 INT, 13 VDD, 14 NC, 15 NC, 16 NC, 17 NC, 18 GND, 19 RESV, 20 RESV, 21 AUX_DA, 22 nCS, 23 SCL, 24 SDA

## MPU-9250
designator U?, comment MPU9250
Invensense
footprint MPU6500 (QFN, 24-Leads, Body 3.00x3.00mm, Pitch 0.40mm, Thermal Pad 1.54x1.54mm, IPC Medium Density)
pins: 1 VDDIO, 2 NC, 3 NC, 4 NC, 5 NC, 6 NC, 7 AUX_CL, 8 VDDIO, 9 SDO/ADO, 10 REGOUT, 11 FSYNC, 12 INT, 13 VDD, 14 NC, 15 NC, 16 NC, 17 NC, 18 GND, 19 RESV, 20 RESV, 21 AUX_DA, 22 nCS, 23 SCL, 24 SDA

## MS223-10F
designator MP?
RF Shield
footprint MS223-10F
pins: 1, 2, 3, 4, 5, 6

## MS5803_Press
designator U?
footprint MS5803_Press
pins: 1 SCL, 2 GND, 3 CSB, 4 NC, 5 VDD (power), 6 PS, 7 SDA, 8 SDO

## MS5837
designator U?  Supplier Part Number 1: 223-1704-1-ND
Pressure/Temp; Supplier 1: Digi-Key
footprint MS5837
pins: 1 GND, 2 VDD, 3 SCL, 4 SDA

## NFA31GD
designator RC?  Supplier Part Number 1: 490-11828-2-ND
Chip RC filter; Supplier 1: Digi-Key
footprint NFA31GD
pins: 1 GND, 2 GND, 3, 4, 5, 6, 7, 8, 9, 10

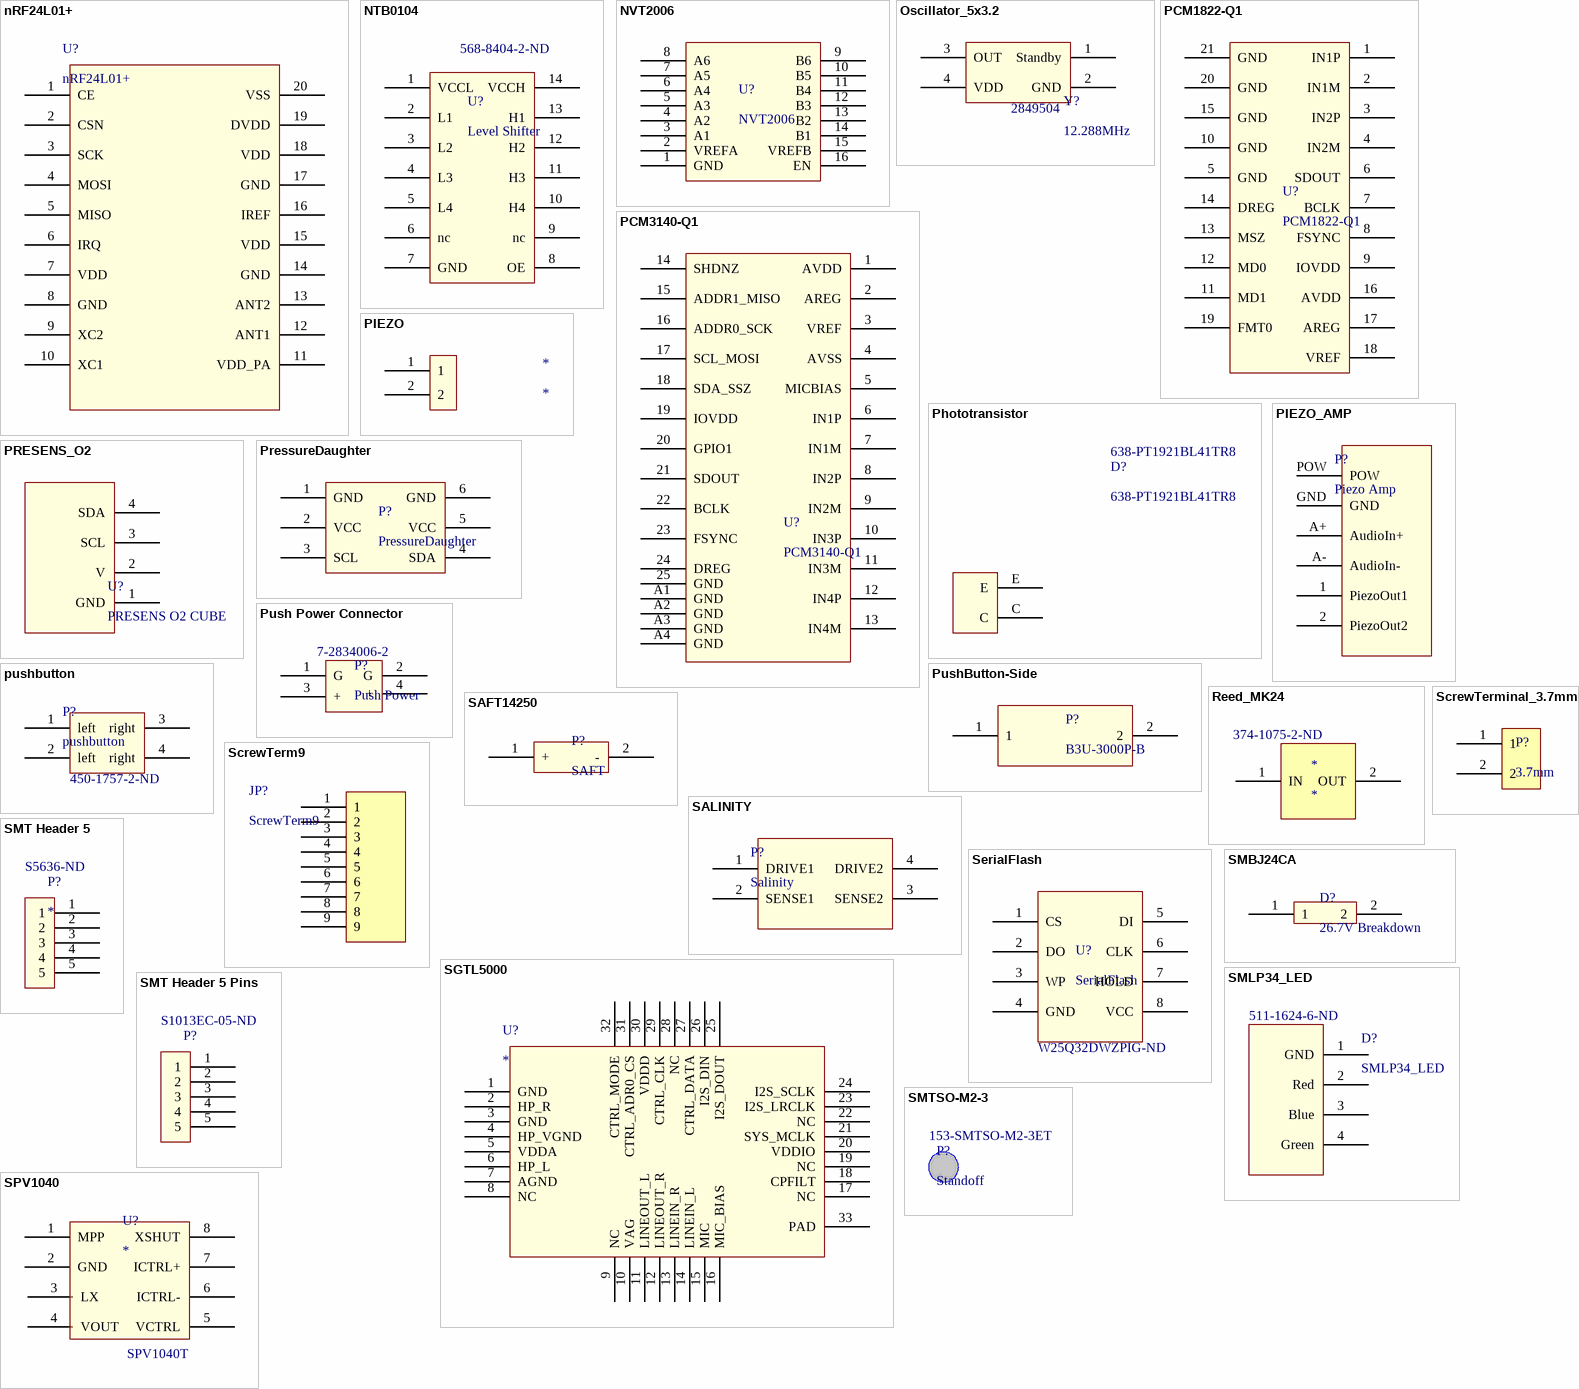
[diagram p4: symbols nRF24L01+ to SPV1040]

## nRF24L01+
designator U?
Supplier 1: Digi-Key; Supplier Part Number 1: 1490-1019-ND; Name: nRF24L01+
footprint QFN20_nRF24L01_Medium
pins: 1 CE, 2 CSN, 3 SCK, 4 MOSI, 5 MISO, 6 IRQ, 7 VDD, 8 GND, 9 XC2, 10 XC1, 11 VDD_PA, 12 ANT1, 13 ANT2, 14 GND, 15 VDD, 16 IREF, 17 GND, 18 VDD, 19 DVDD, 20 VSS

## NTB0104
designator U?, comment Level Shifter  Supplier Part Number 1: 568-8404-2-ND
Voltage level translator; Supplier 1: Digi-Key
footprint DHVQFN14 (QFN, 14-Leads, Body 2.50x3.00mm, Pitch 0.50mm, Thermal Pad 1.00x1.50mm, IPC Medium Density)
pins: 1 VCCL, 2 L1, 3 L2, 4 L3, 5 L4, 6 nc, 7 GND, 8 OE "active high", 9 nc, 10 H4, 11 H3, 12 H2, 13 H1, 14 VCCH

## NVT2006
designator U?
Level shifter
footprint NVT2006 (QFN, 16-Leads, Body 3.00x3.00mm, Pitch 0.50mm, Thermal Pad 1.60x1.60mm, IPC Medium Density)
pins: 1 GND, 2 VREFA, 3 A1, 4 A2, 5 A3, 6 A4, 7 A5, 8 A6, 9 B6, 10 B5, 11 B4, 12 B3, 13 B2, 14 B1, 15 VREFB, 16 EN

## Oscillator_5x3.2
designator Y?, comment 12.288MHz  Supplier Part Number 1: 2849504
Supplier 1: Farnell; Oscillator: 12.288MHz
footprint Oscillator_5x3.2
pins: 1 Standby, 2 GND, 3 OUT, 4 VDD

## PCM1822-Q1
designator U?
TI PCM1822-Q1 Stereo Channel, 32-Bit, 192-kHz, Burr-Brown Audio ADC
footprint PCM1822-Q1 (QFN, 16-Leads, Body 3.00x3.00mm, Pitch 0.50mm, Thermal Pad 1.40x1.40mm, IPC Medium Density)
pins: 1 IN1P, 2 IN1M, 3 IN2P, 4 IN2M, 5 GND, 6 SDOUT, 7 BCLK, 8 FSYNC, 9 IOVDD, 10 GND, 11 MD1, 12 MD0, 13 MSZ, 14 DREG, 15 GND, 16 AVDD, 17 AREG, 18 VREF, 19 FMT0, 20 GND, 21 GND

## PCM3140-Q1
designator U?
footprint PCM3140 (QFN, 24-Leads, Body 4.00x4.00mm, Pitch 0.50mm, Thermal Pad 2.10x2.10mm, IPC Medium Density)
pins: 1 AVDD, 2 AREG, 3 VREF, 4 AVSS "VREF", 5 MICBIAS "VREF", 6 IN1P, 7 IN1M, 8 IN2P, 9 IN2M, 10 IN3P "IN1P", 11 IN3M "IN1M", 12 IN4P "IN2P", 13 IN4M "IN2M", 14 SHDNZ "BCLK", 15 ADDR1_MISO "BCLK", 16 ADDR0_SCK "BCLK", 17 SCL_MOSI "BCLK", 18 SDA_SSZ "BCLK", 19 IOVDD, 20 GPIO1 "GND", 21 SDOUT, 22 BCLK, 23 FSYNC, 24 DREG, 25 GND "DREG", A1 GND, A2 GND, A3 GND, A4 GND

## Phototransistor
designator D?, comment 638-PT1921BL41TR8
Phototransistor; Supplier 1: Mouser; Supplier Part Number 1: 638-PT1921BL41TR8
footprint Phototransistor
pins: C, E

## PIEZO
designator *
footprint PIEZO
pins: 1, 2

## PIEZO_AMP
designator P?, comment Piezo Amp
Sonitron PAA-LM4960SQ-02
footprint PIEZO_AMP (SONITRON PAA-LM4960SQ-02)
pins: 1 PiezoOut1, 2 PiezoOut2, A+ AudioIn+, A- AudioIn-, GND, POW

## PRESENS_O2
designator U?, comment PRESENS O2 CUBE
footprint PRESENS_O2
pins: 1 GND, 2 V, 3 SCL, 4 SDA

## PressureDaughter
designator P?
footprint PressureDaughter
pins: 1 GND, 2 VCC, 3 SCL, 4 SDA, 5 VCC, 6 GND

## Push Power Connector
designator P?, comment Push Power  Supplier Part Number 1: 7-2834006-2
Supplier 1: Arrow Electronics
footprint push power connector
pins: 1 G, 2 G, 3 +, 4 +

## pushbutton
designator P?  Supplier Part Number 1: 450-1757-2-ND
Supplier 1: Digi-Key
footprint SOP4
pins: 1 left, 2 left, 3 right, 4 right

## PushButton-Side
designator P?, comment B3U-3000P-B
Supplier 1: Newark; Supplier Part Number 1: 34M5298
footprint PushButton-side
pins: 1, 2

## Reed_MK24
designator *  Supplier Part Number 1: 374-1075-2-ND
Supplier 1: Digi-Key
footprint Reed MK24-B-3 (Meder Reed Switch Surface Mount)
pins: 1 IN, 2 OUT

## SAFT14250
designator P?, comment SAFT
footprint SAFT_LS14250 (LiBattery)
pins: 1 +, 2 -

## SALINITY
designator P?, comment Salinity
footprint SALINITY
pins: 1 DRIVE1, 2 SENSE1, 3 SENSE2, 4 DRIVE2

## ScrewTerm9
designator JP?
footprint ScrewTerm9
pins: 1, 2, 3, 4, 5, 6, 7, 8, 9

## ScrewTerminal_3.7mm
designator P?, comment 3.7mm
footprint ScrewTerminal_3.7mm
pins: 1, 2

## SerialFlash
designator U?  Supplier Part Number 1: W25Q32DWZPIG-ND
Serial Flash; Supplier 1: Digi-Key
footprint WSON8 (QFN, 8-Leads, Body 5.00x6.00mm, Pitch 1.27mm, Thermal Pad 4.30x3.40mm, IPC Medium Density)
pins: 1 CS, 2 DO, 3 WP, 4 GND, 5 DI, 6 CLK, 7 HOLD, 8 VCC

## SGTL5000
designator U?
SGTL5000
footprint QFN32
pins: 1 GND, 2 HP_R, 3 GND, 4 HP_VGND, 5 VDDA, 6 HP_L, 7 AGND, 8 NC, 9 NC, 10 VAG, 11 LINEOUT_L, 12 LINEOUT_R, 13 LINEIN_R, 14 LINEIN_L, 15 MIC, 16 MIC_BIAS, 17 NC, 18 CPFILT, 19 NC, 20 VDDIO, 21 SYS_MCLK, 22 NC, 23 I2S_LRCLK, 24 I2S_SCLK, 25 I2S_DOUT, 26 I2S_DIN, 27 CTRL_DATA, 28 NC, 29 CTRL_CLK, 30 VDDD, 31 CTRL_ADR0_CS, 32 CTRL_MODE, 33 PAD

## SMBJ24CA
designator D?, comment 26.7V Breakdown
footprint SMBJ24CA
pins: 1, 2

## SMLP34_LED
designator D?  Supplier Part Number 1: 511-1624-6-ND
Supplier 1: Digi-Key
footprint SMLP34_LED (RGB LED)
pins: 1 GND, 2 Red, 3 Blue, 4 Green

## SMT Header 5
designator P?  Supplier Part Number 1: S5636-ND
Supplier 1: Digi-Key
footprint SMT Header 5 (Sullins NPPC051KFXC-RC)
pins: 1, 2, 3, 4, 5

## SMT Header 5 Pins
designator P?  Supplier Part Number 1: S1013EC-05-ND
Supplier 1: Digi-Key
footprint SMT Header Pins 5
pins: 1, 2, 3, 4, 5

## SMTSO-M2-3
designator P?, comment Standoff  Supplier Part Number 1: 153-SMTSO-M2-3ET
Supplier 1: Mouser
footprint SMTSO-M2-3 (Surface mount threaded standoff)

## SPV1040
designator U?  Supplier Part Number 1: SPV1040T
Supplier 1: TME
footprint TSSOP-8 (SPV1040)
pins: 1 MPP, 2 GND, 3 LX, 4 VOUT, 5 VCTRL, 6 ICTRL-, 7 ICTRL+, 8 XSHUT

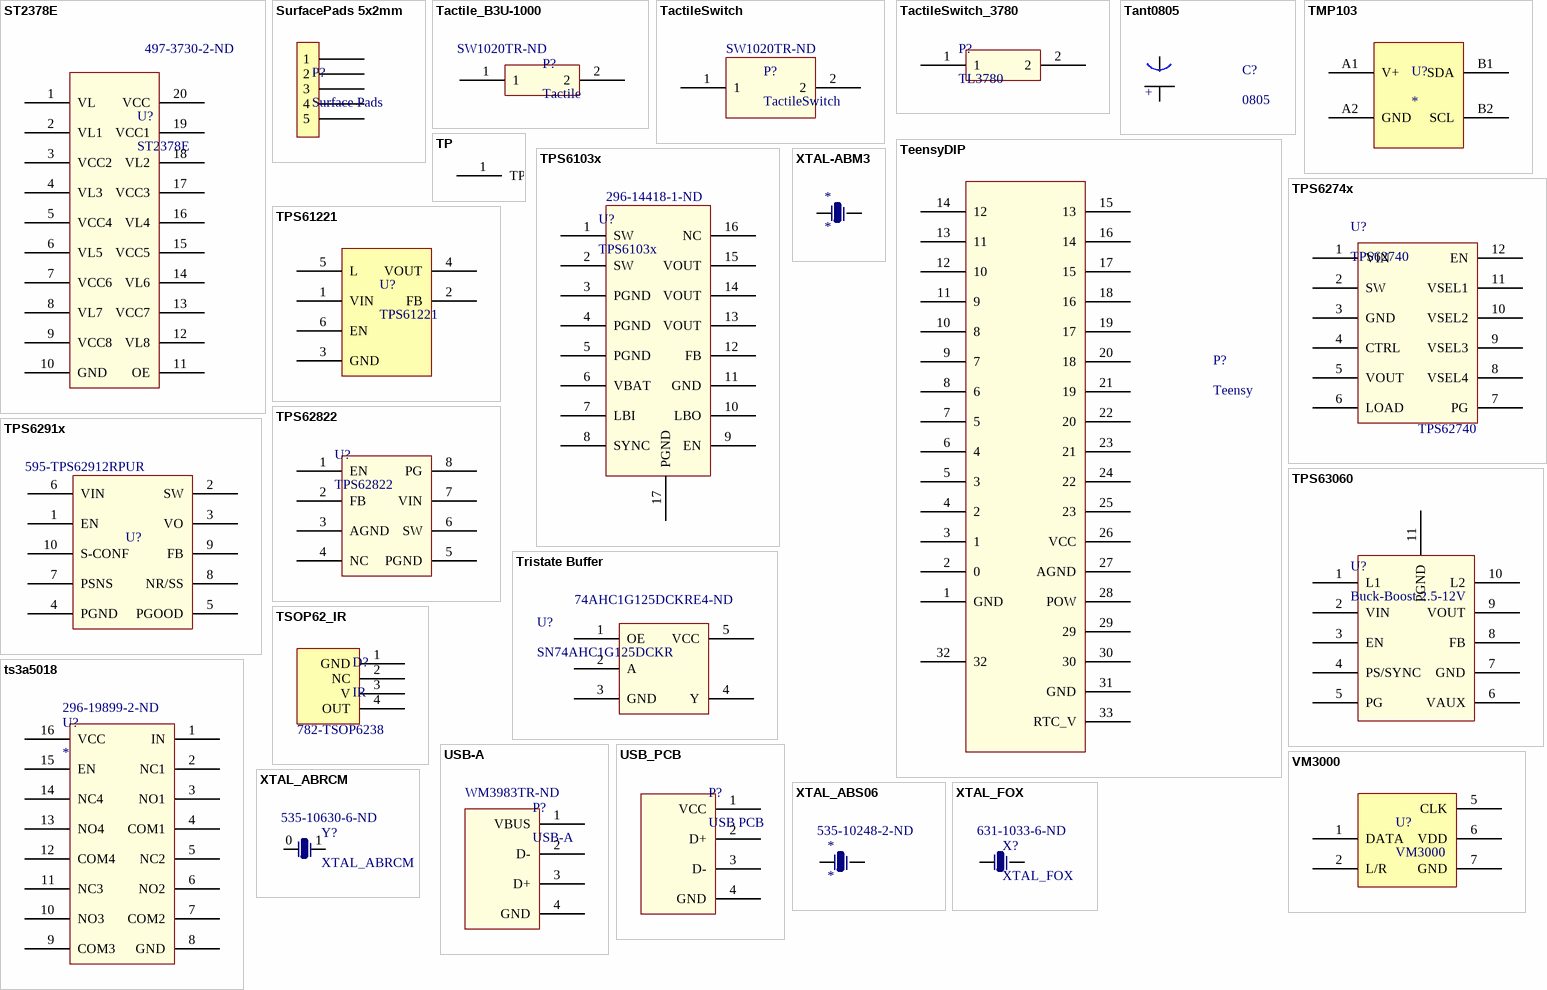
[diagram p5: symbols ST2378E to XTAL_FOX]

## ST2378E
designator U?  Supplier Part Number 1: 497-3730-2-ND
Supplier 1: Digi-Key
footprint TSSOP20 (TSOP, 20-Leads, Body 6.50x6.40mm, Pitch 0.65mm, IPC Medium Density)
pins: 1 VL, 2 VL1, 3 VCC2, 4 VL3, 5 VCC4, 6 VL5, 7 VCC6, 8 VL7, 9 VCC8, 10 GND, 11 OE, 12 VL8, 13 VCC7, 14 VL6, 15 VCC5, 16 VL4, 17 VCC3, 18 VL2, 19 VCC1, 20 VCC

## SurfacePads 5x2mm
designator P?, comment Surface Pads
footprint Surface Pads 5 x 2mm
pins: 1, 2, 3, 4, 5

## Tactile_B3U-1000
designator P?, comment Tactile  Supplier Part Number 1: SW1020TR-ND
Supplier 1: Digi-Key
footprint Tactile-B3U-1000
pins: 1, 2

## TactileSwitch
designator P?  Supplier Part Number 1: SW1020TR-ND
Supplier 1: Digi-Key
footprint TactileSwitch
pins: 1, 2

## TactileSwitch_3780
designator P?, comment TL3780
ESwitch Tl3780
footprint ESWITCH (E-Switch TL3780)
pins: 1, 2

## Tant0805
designator C?, comment 0805
Value: *
footprint Tant0805
pins: 1 GND, 2 +

## TeensyDIP
designator P?, comment Teensy
footprint DIP28
footprint DIP28
pins: 1 GND, 2 0, 3 1, 4 2, 5 3, 6 4, 7 5, 8 6, 9 7, 10 8, 11 9, 12 10, 13 11, 14 12, 15 13, 16 14, 17 15, 18 16, 19 17, 20 18, 21 19, 22 20, 23 21, 24 22, 25 23, 26 VCC, 27 AGND, 28 POW, 29, 30, 31 GND, 32, 33 RTC_V

## TMP103
designator U?
footprint BGA4_TMP103 (BGA, 4-Leads, Body 0.8x0.8mm,  Pitch 0.40mm)
pins: A1 V+ (power), A2 GND, B1 SDA, B2 SCL

## TP
designator testpoint  (value not drawn)
testpoint
footprint TP
pins: 1 TP

## TPS6103x
designator U?  Supplier Part Number 2: 296-14418-1-ND
Boost converter; Supplier 1: Newark; Supplier 2: Digi-Key
footprint TPS6103x (TSOP, 16-Leads, Body 5.00x4.40mm, Pitch 0.65mm, Thermal Pad 2.31.2x2.46.2mm, IPC Medium Density)
pins: 1 SW, 2 SW, 3 PGND, 4 PGND, 5 PGND, 6 VBAT, 7 LBI, 8 SYNC, 9 EN, 10 LBO, 11 GND, 12 FB, 13 VOUT, 14 VOUT, 15 VOUT, 16 NC, 17 PGND

## TPS6274x
designator U?, comment TPS62740
Supplier 1: Farnell; Supplier Part Number 1: TPS62740
footprint TPS6774x (QFN, 12-Leads, Body 2.00x3.00mm, Pitch 0.50mm, Thermal Pad 0.90x2.00mm, IPC Medium Density)
footprint TPS6274x (QFN, 12-Leads, Body 2.00x3.00mm, Pitch 0.50mm, Thermal Pad 0.90x2.00mm, IPC Medium Density)
pins: 1 VIN, 2 SW, 3 GND, 4 CTRL, 5 VOUT, 6 LOAD, 7 PG, 8 VSEL4, 9 VSEL3, 10 VSEL2, 11 VSEL1, 12 EN

## TPS6291x
designator U?  Supplier Part Number 1: 595-TPS62912RPUR
IC REG BUCK ADJ 2A 10VQFN; Supplier 1: Mouser
footprint TPS6291x (Buck converter)
pins: 1 EN, 2 SW, 3 VO, 4 PGND, 5 PGOOD, 6 VIN (power), 7 PSNS, 8 NR/SS, 9 FB, 10 S-CONF

## TPS61221
designator U?
footprint SC70 (TSOP, 6-Leads, Body 2.2x1.4mm (max), Pitch 0.65mm, IPC Medium Density)
pins: 1 VIN (power), 2 FB, 3 GND, 4 VOUT (power), 5 L, 6 EN

## TPS62822
designator U?
Step-down converter; Supplier 1: Farnell; Supplier Part Number 1: 2894176
footprint TPS62822_SOP8
pins: 1 EN, 2 FB, 3 AGND, 4 NC, 5 PGND, 6 SW, 7 VIN, 8 PG

## TPS63060
designator U?, comment Buck-Boost 2.5-12V
TPS63060; Supplier 1: Newark; Supplier Part Number 1: 82T9733
footprint TPS63060 (buck-boost 2.5-12V input)
pins: 1 L1, 2 VIN, 3 EN, 4 PS/SYNC, 5 PG, 6 VAUX, 7 GND, 8 FB, 9 VOUT, 10 L2, 11 PGND

## Tristate Buffer
designator U?, comment SN74AHC1G125DCKR  Supplier Part Number 1: 74AHC1G125DCKRE4-ND
Tristate buffer; Supplier 1: Digi-Key
footprint SOT SC-70 (SOT23, 5-Leads, Body 2.00x2.10mm, Pitch 0.65mm, IPC Medium Density)
pins: 1 OE, 2 A, 3 GND, 4 Y, 5 VCC

## ts3a5018
designator U?  Supplier Part Number 1: 296-19899-2-ND
Quad SPDT; Supplier 1: Digi-Key
footprint ts3a5018_VQFN (quad SPDT analog switch)
pins: 1 IN, 2 NC1, 3 NO1, 4 COM1, 5 NC2, 6 NO2, 7 COM2, 8 GND, 9 COM3, 10 NO3, 11 NC3, 12 COM4, 13 NO4, 14 NC4, 15 EN, 16 VCC

## TSOP62_IR
designator D?, comment IR  Supplier Part Number 1: 782-TSOP6238
Supplier 1: Mouser
footprint TSPOP62_IR
pins: 1 GND, 2 NC, 3 V, 4 OUT

## USB-A
designator P?  Supplier Part Number 1: WM3983TR-ND
Supplier 1: Digi-Key
footprint USB-A
pins: 1 VBUS, 2 D-, 3 D+, 4 GND

## USB_PCB
designator P?, comment USB PCB
footprint USB_PCB (USB connector using PCB)
pins: 1 VCC, 2 D+, 3 D-, 4 GND

## VM3000
designator U?
Vesper MEMS PDM Mic
footprint VM3000 (Vesper PDM Mic)
pins: 1 DATA, 2 L/R, 5 CLK, 6 VDD, 7 GND

## XTAL-ABM3
designator *
footprint XTAL-ABM3
pins: 1, 2

## XTAL_ABRCM
designator Y?  Supplier Part Number 1: 535-10630-6-ND
Abracom XTAL 8 MHz; Supplier 1: Digi-Key
footprint XTAL_ABRACOM
pins: 0, 1

## XTAL_ABS06
designator *  Supplier Part Number 1: 535-10248-2-ND
Supplier 1: Digi-Key
footprint XTAL-ABS06
pins: 1, 2

## XTAL_FOX
designator X?  Supplier Part Number 1: 631-1033-6-ND
Supplier 1: Digi-Key
footprint XTAL_FOX
pins: 1, 2